# EAGLE library part USB2514 (library 1dah)
4-ch USB 2.0 hub controller
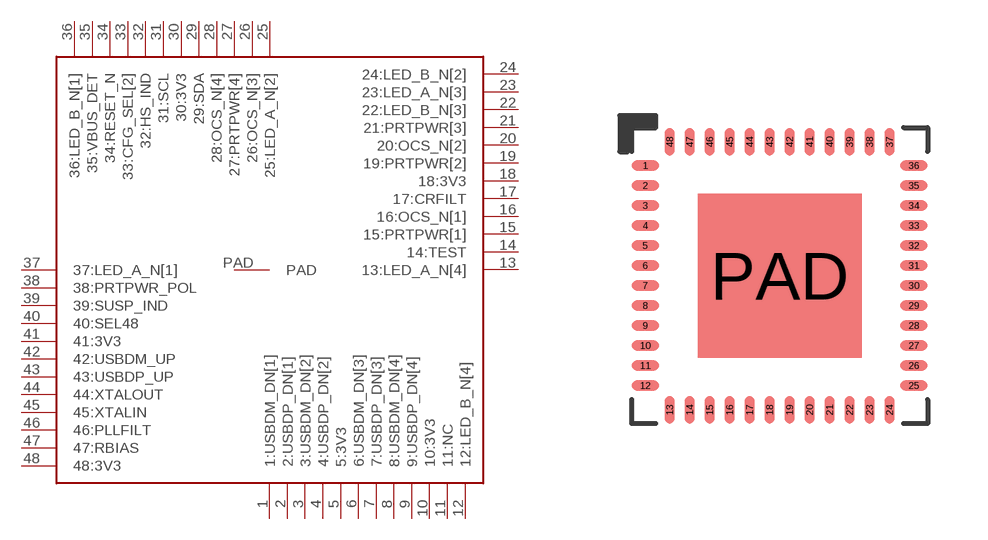
[diagram p61: symbol with the pads of QFN-48; footprint QFN-48]

Designator prefix -

## USB2514  [QFN-48]
1  1:USBDM_DN[1]
2  2:USBDP_DN[1]
3  3:USBDM_DN[2]
4  4:USBDP_DN[2]
5  5:3V3
6  6:USBDM_DN[3]
7  7:USBDP_DN[3]
8  8:USBDM_DN[4]
9  9:USBDP_DN[4]
10  10:3V3
11  11:NC
12  12:LED_B_N[4]
13  13:LED_A_N[4]
14  14:TEST
15  15:PRTPWR[1]
16  16:OCS_N[1]
17  17:CRFILT
18  18:3V3
19  19:PRTPWR[2]
20  20:OCS_N[2]
21  21:PRTPWR[3]
22  22:LED_B_N[3]
23  23:LED_A_N[3]
24  24:LED_B_N[2]
25  25:LED_A_N[2]
26  26:OCS_N[3]
27  27:PRTPWR[4]
28  28:OCS_N[4]
29  29:SDA
30  30:3V3
31  31:SCL
32  32:HS_IND
33  33:CFG_SEL[2]
34  34:RESET_N
35  35:VBUS_DET
36  36:LED_B_N[1]
37  37:LED_A_N[1]
38  38:PRTPWR_POL
39  39:SUSP_IND
40  40:SEL48
41  41:3V3
42  42:USBDM_UP
43  43:USBDP_UP
44  44:XTALOUT
45  45:XTALIN
46  46:PLLFILT
47  47:RBIAS
48  48:3V3
PAD  PAD

## Footprint QFN-48 (pad centres in mm)
smd 0.69 x 0.25: 1 -3.36,2.75; 2 -3.36,2.25; 3 -3.36,1.75; 4 -3.36,1.25; 5 -3.36,0.75; 6 -3.36,0.25; 7 -3.36,-0.25; 8 -3.36,-0.75; 9 -3.36,-1.25; 10 -3.36,-1.75; 11 -3.36,-2.25; 12 -3.36,-2.75; 25 3.36,-2.75; 26 3.36,-2.25; 27 3.36,-1.75; 28 3.36,-1.25; 29 3.36,-0.75; 30 3.36,-0.25; 31 3.36,0.25; 32 3.36,0.75; 33 3.36,1.25; 34 3.36,1.75; 35 3.36,2.25; 36 3.36,2.75
smd 0.25 x 0.69: 13 -2.75,-3.36; 14 -2.25,-3.36; 15 -1.75,-3.36; 16 -1.25,-3.36; 17 -0.75,-3.36; 18 -0.25,-3.36; 19 0.25,-3.36; 20 0.75,-3.36; 21 1.25,-3.36; 22 1.75,-3.36; 23 2.25,-3.36; 24 2.75,-3.36; 37 2.75,3.34; 38 2.25,3.34; 39 1.75,3.34; 40 1.25,3.34; 41 0.75,3.34; 42 0.25,3.34; 43 -0.25,3.34; 44 -0.75,3.34; 45 -1.25,3.34; 46 -1.75,3.34; 47 -2.25,3.34; 48 -2.75,3.34
smd 4.1 x 4.1: PAD 0,0